# EAGLE library part SIPEED_M1 (library K210)
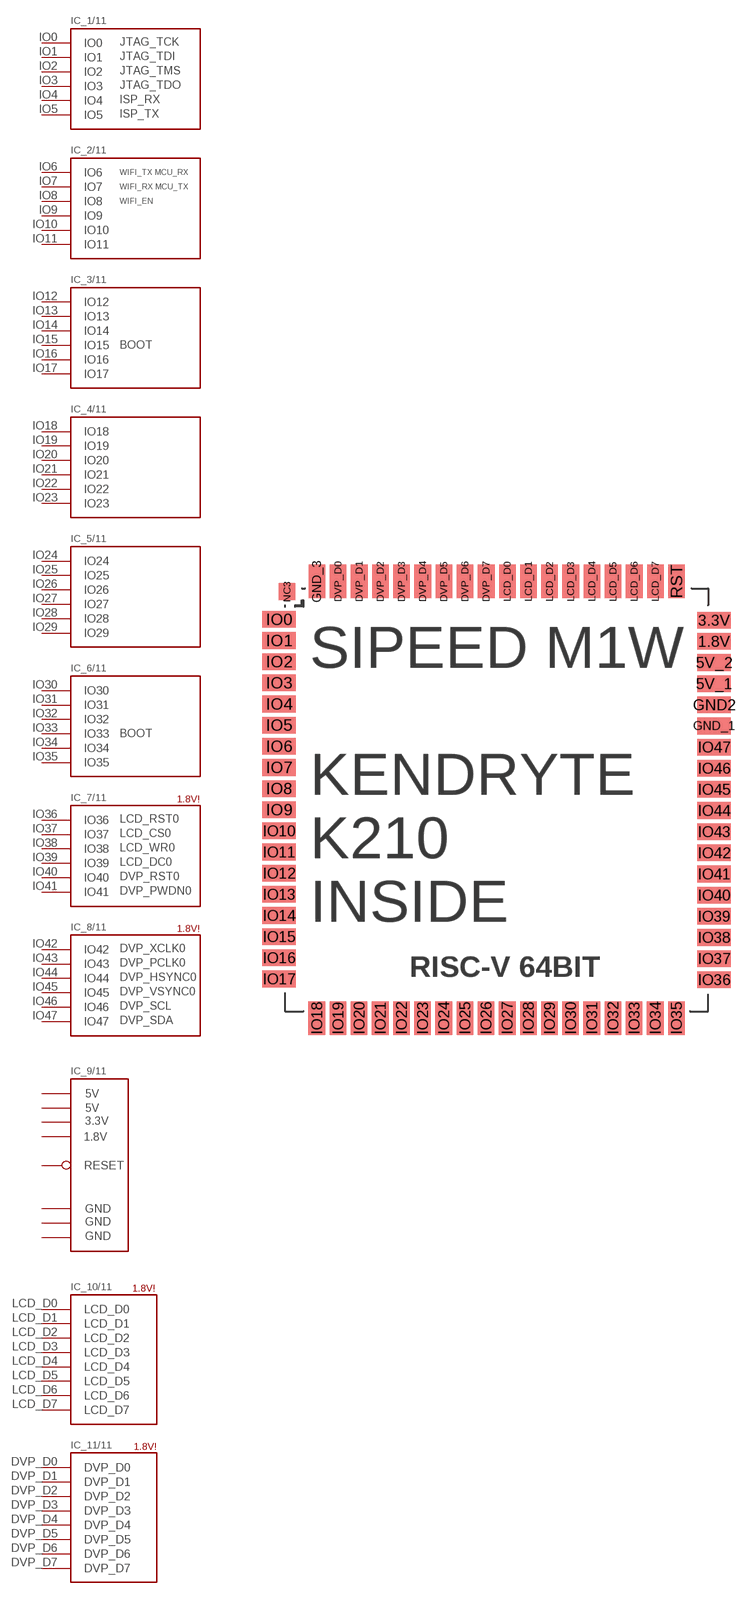
[diagram p0: symbol with the pads of K210; footprint K210]

Designator prefix IC; gates _1/11=K210_1 _2/11=K210_2 _3/11=K210_3 _4/11=K210_4 _5/11=K210_5 _6/11=K210_6 _7/11=K210_7 _8/11=K210_8 _9/11=K210_9 _10/11=K210_10 _11/11=K210_11

## SIPEED_M1  [K210]
1.8V  _9/11:1.8V  pwr
3.3V  _9/11:3.3V  pwr
5V_1  _9/11:5V_1  pwr
5V_2  _9/11:5V_2  pwr
DVP_D0  _11/11:DVP_D0
DVP_D1  _11/11:DVP_D1
DVP_D2  _11/11:DVP_D2
DVP_D3  _11/11:DVP_D3
DVP_D4  _11/11:DVP_D4
DVP_D5  _11/11:DVP_D5
DVP_D6  _11/11:DVP_D6
DVP_D7  _11/11:DVP_D7
GND2  _9/11:GND2  pwr
GND_1  _9/11:GND1  pwr
GND_3  _9/11:GND3  pwr
IO0  _1/11:IO0
IO1  _1/11:IO1
IO2  _1/11:IO2
IO3  _1/11:IO3
IO4  _1/11:IO4
IO5  _1/11:IO5
IO6  _2/11:IO6
IO7  _2/11:IO7
IO8  _2/11:IO8
IO9  _2/11:IO9
IO10  _2/11:IO10
IO11  _2/11:IO11
IO12  _3/11:IO12
IO13  _3/11:IO13
IO14  _3/11:IO14
IO15  _3/11:IO15
IO16  _3/11:IO16
IO17  _3/11:IO17
IO18  _4/11:IO18
IO19  _4/11:IO19
IO20  _4/11:IO20
IO21  _4/11:IO21
IO22  _4/11:IO22
IO23  _4/11:IO23
IO24  _5/11:IO24
IO25  _5/11:IO25
IO26  _5/11:IO26
IO27  _5/11:IO27
IO28  _5/11:IO28
IO29  _5/11:IO29
IO30  _6/11:IO30
IO31  _6/11:IO31
IO32  _6/11:IO32
IO33  _6/11:IO33
IO34  _6/11:IO34
IO35  _6/11:IO35
IO36  _7/11:IO36
IO37  _7/11:IO37
IO38  _7/11:IO38
IO39  _7/11:IO39
IO40  _7/11:IO40
IO41  _7/11:IO41
IO42  _8/11:IO42
IO43  _8/11:IO43
IO44  _8/11:IO44
IO45  _8/11:IO45
IO46  _8/11:IO46
IO47  _8/11:IO47
LCD_D0  _10/11:LCD_D0
LCD_D1  _10/11:LCD_D1
LCD_D2  _10/11:LCD_D2
LCD_D3  _10/11:LCD_D3
LCD_D4  _10/11:LCD_D4
LCD_D5  _10/11:LCD_D5
LCD_D6  _10/11:LCD_D6
LCD_D7  _10/11:LCD_D7
RST  _9/11:RESET  in

## Footprint K210 (pad centres in mm)
smd 2 x 1: 1.8V 25.755,22.221; 3.3V 25.755,23.491; 5V_1 25.755,19.681; 5V_2 25.755,20.951; GND2 25.755,18.411; GND_1 25.755,17.141; IO0 -0.362,23.54; IO1 -0.362,22.27; IO2 -0.362,21; IO3 -0.362,19.73; IO4 -0.362,18.46; IO5 -0.362,17.19; IO6 -0.362,15.92; IO7 -0.362,14.65; IO8 -0.362,13.38; IO9 -0.362,12.11; IO10 -0.362,10.84; IO11 -0.362,9.57; IO12 -0.362,8.3; IO13 -0.362,7.03; IO14 -0.362,5.76; IO15 -0.362,4.49; IO16 -0.362,3.22; IO17 -0.362,1.95; IO36 25.755,1.901; IO37 25.755,3.171; IO38 25.755,4.441; IO39 25.755,5.711; IO40 25.755,6.981; IO41 25.755,8.251; IO42 25.755,9.521; IO43 25.755,10.791; IO44 25.755,12.061; IO45 25.755,13.331; IO46 25.755,14.601; IO47 25.755,15.871
smd 1 x 2: DVP_D0 3.18,25.82; DVP_D1 4.45,25.82; DVP_D2 5.72,25.82; DVP_D3 6.99,25.82; DVP_D4 8.26,25.82; DVP_D5 9.53,25.82; DVP_D6 10.8,25.82; DVP_D7 12.07,25.82; GND_3 1.91,25.82; IO18 1.9,-0.4; IO19 3.17,-0.4; IO20 4.44,-0.4; IO21 5.71,-0.4; IO22 6.98,-0.4; IO23 8.25,-0.4; IO24 9.52,-0.4; IO25 10.79,-0.4; IO26 12.06,-0.4; IO27 13.33,-0.4; IO28 14.6,-0.4; IO29 15.87,-0.4; IO30 17.14,-0.4; IO31 18.41,-0.4; IO32 19.68,-0.4; IO33 20.95,-0.4; IO34 22.22,-0.4; IO35 23.49,-0.4; LCD_D0 13.34,25.82; LCD_D1 14.61,25.82; LCD_D2 15.88,25.82; LCD_D3 17.15,25.82; LCD_D4 18.42,25.82; LCD_D5 19.69,25.82; LCD_D6 20.96,25.82; LCD_D7 22.23,25.82; RST 23.5,25.82
smd 1 x 1: NC3 0.12,25.21